# EAGLE library part GEN_2X3_0.1IN_HEADER (library WCSMain)
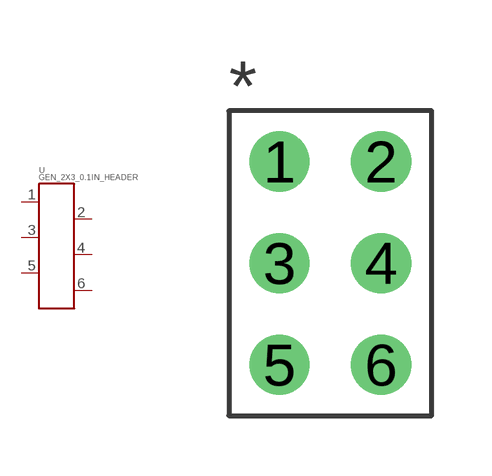
[diagram p7: symbol with the pads of 2X3_0.1IN_HEADER; footprint 2X3_0.1IN_HEADER]

Designator prefix -

## GEN_2X3_0.1IN_HEADER  [2X3_0.1IN_HEADER]
1  PIN_1  pas
2  PIN_2  pas
3  PIN_3  pas
4  PIN_4  pas
5  PIN_5  pas
6  PIN_6  pas

## Footprint 2X3_0.1IN_HEADER (pad centres in mm)
drill 1: 1 -1.27,2.54; 2 1.27,2.54; 3 -1.27,0; 4 1.27,0; 5 -1.27,-2.54; 6 1.27,-2.54